# EAGLE library part SN74AVC2T45 (library X893)
http://focus.ti.com/lit/ds/symlink/sn74avc2t45.pdf
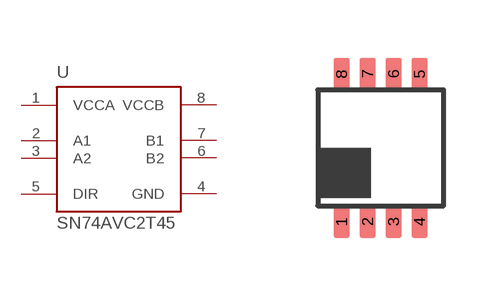
[diagram p89: symbol with the pads of SM8; footprint SM8]

Designator prefix U

## SN74AVC2T45-SM8  [SM8]
1  VCCA
2  A1
3  A2
4  GND  sup
5  DIR  in
6  B2
7  B1
8  VCCB

## Footprint SM8 (pad centres in mm)
http://focus.ti.com/lit/ml/mpds049b/mpds049b.pdf
smd 0.4 x 0.8: 1 -0.975,-1.85; 2 -0.325,-1.85; 3 0.325,-1.85; 4 0.975,-1.85; 5 0.975,1.85; 6 0.325,1.85; 7 -0.325,1.85; 8 -0.975,1.85